# EAGLE library part CYBLE-012011-00 (library CYBLE-012011-00)
Bluetooth Bluetooth v4.1 Transceiver Module 2.4GHz ~ 2.48GHz Integrated, Trace Surface Mount
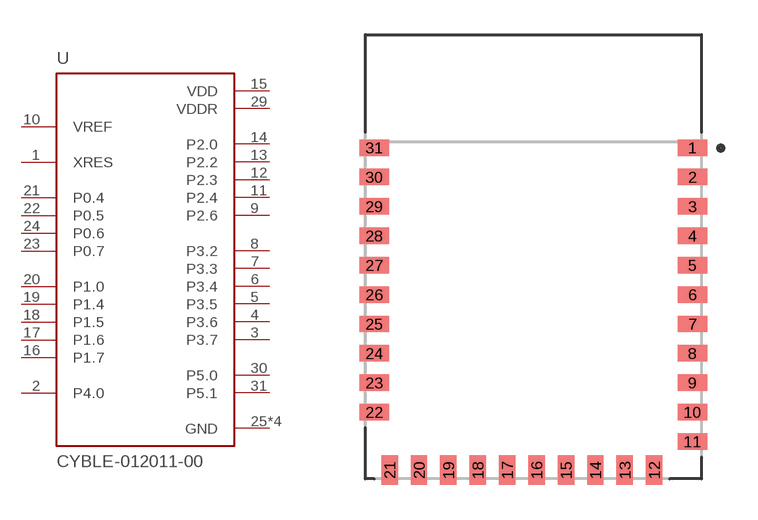
[diagram p0: symbol with the pads of XCVR_CYBLE-012011-00; footprint XCVR_CYBLE-012011-00]

Designator prefix U

## CYBLE-012011-00 (Availability: Unavailable; Description: Bluetooth Bluetooth v4.1 Transceiver Module 2.4GHz ~ 2.48GHz Integrated, Trace Surface Mount; MF: Cypress Semiconductor; MP: CYBLE-012011-00; Package: Module Cypress Semiconductor; Price: None)  [XCVR_CYBLE-012011-00]
1  XRES  in
2  P4.0
3  P3.7
4  P3.6
5  P3.5
6  P3.4
7  P3.3
8  P3.2
9  P2.6
10  VREF  in
11  P2.4
12  P2.3
13  P2.2
14  P2.0
15  VDD  pwr
16  P1.7
17  P1.6
18  P1.5
19  P1.4
20  P1.0
21  P0.4
22  P0.5
23  P0.7
24  P0.6
25  GND  pwr
26  GND  pwr
27  GND  pwr
28  GND  pwr
29  VDDR  pwr
30  P5.0
31  P5.1

## Footprint XCVR_CYBLE-012011-00 (pad centres in mm)
smd 1.27 x 0.71: 1 6.875,4.72; 2 6.875,3.45; 3 6.875,2.18; 4 6.875,0.91; 5 6.875,-0.36; 6 6.875,-1.63; 7 6.875,-2.9; 8 6.875,-4.17; 9 6.875,-5.44; 10 6.875,-6.71; 11 6.875,-7.98; 22 -6.875,-6.71; 23 -6.875,-5.44; 24 -6.875,-4.17; 25 -6.875,-2.9; 26 -6.875,-1.63; 27 -6.875,-0.36; 28 -6.875,0.91; 29 -6.875,2.18; 30 -6.875,3.45; 31 -6.875,4.72
smd 0.71 x 1.27: 12 5.22,-9.215; 13 3.95,-9.215; 14 2.68,-9.215; 15 1.41,-9.215; 16 0.14,-9.215; 17 -1.13,-9.215; 18 -2.4,-9.215; 19 -3.67,-9.215; 20 -4.94,-9.215; 21 -6.21,-9.215